# EAGLE library part LFXP20C_XXF388 (library lattice1)
lfxp20c_fpbga388 edit this description Auto generated by make-symbol-device-package-bsdl.ulp Rev. 20 Source: lfxp20c_fpbga388.bsm
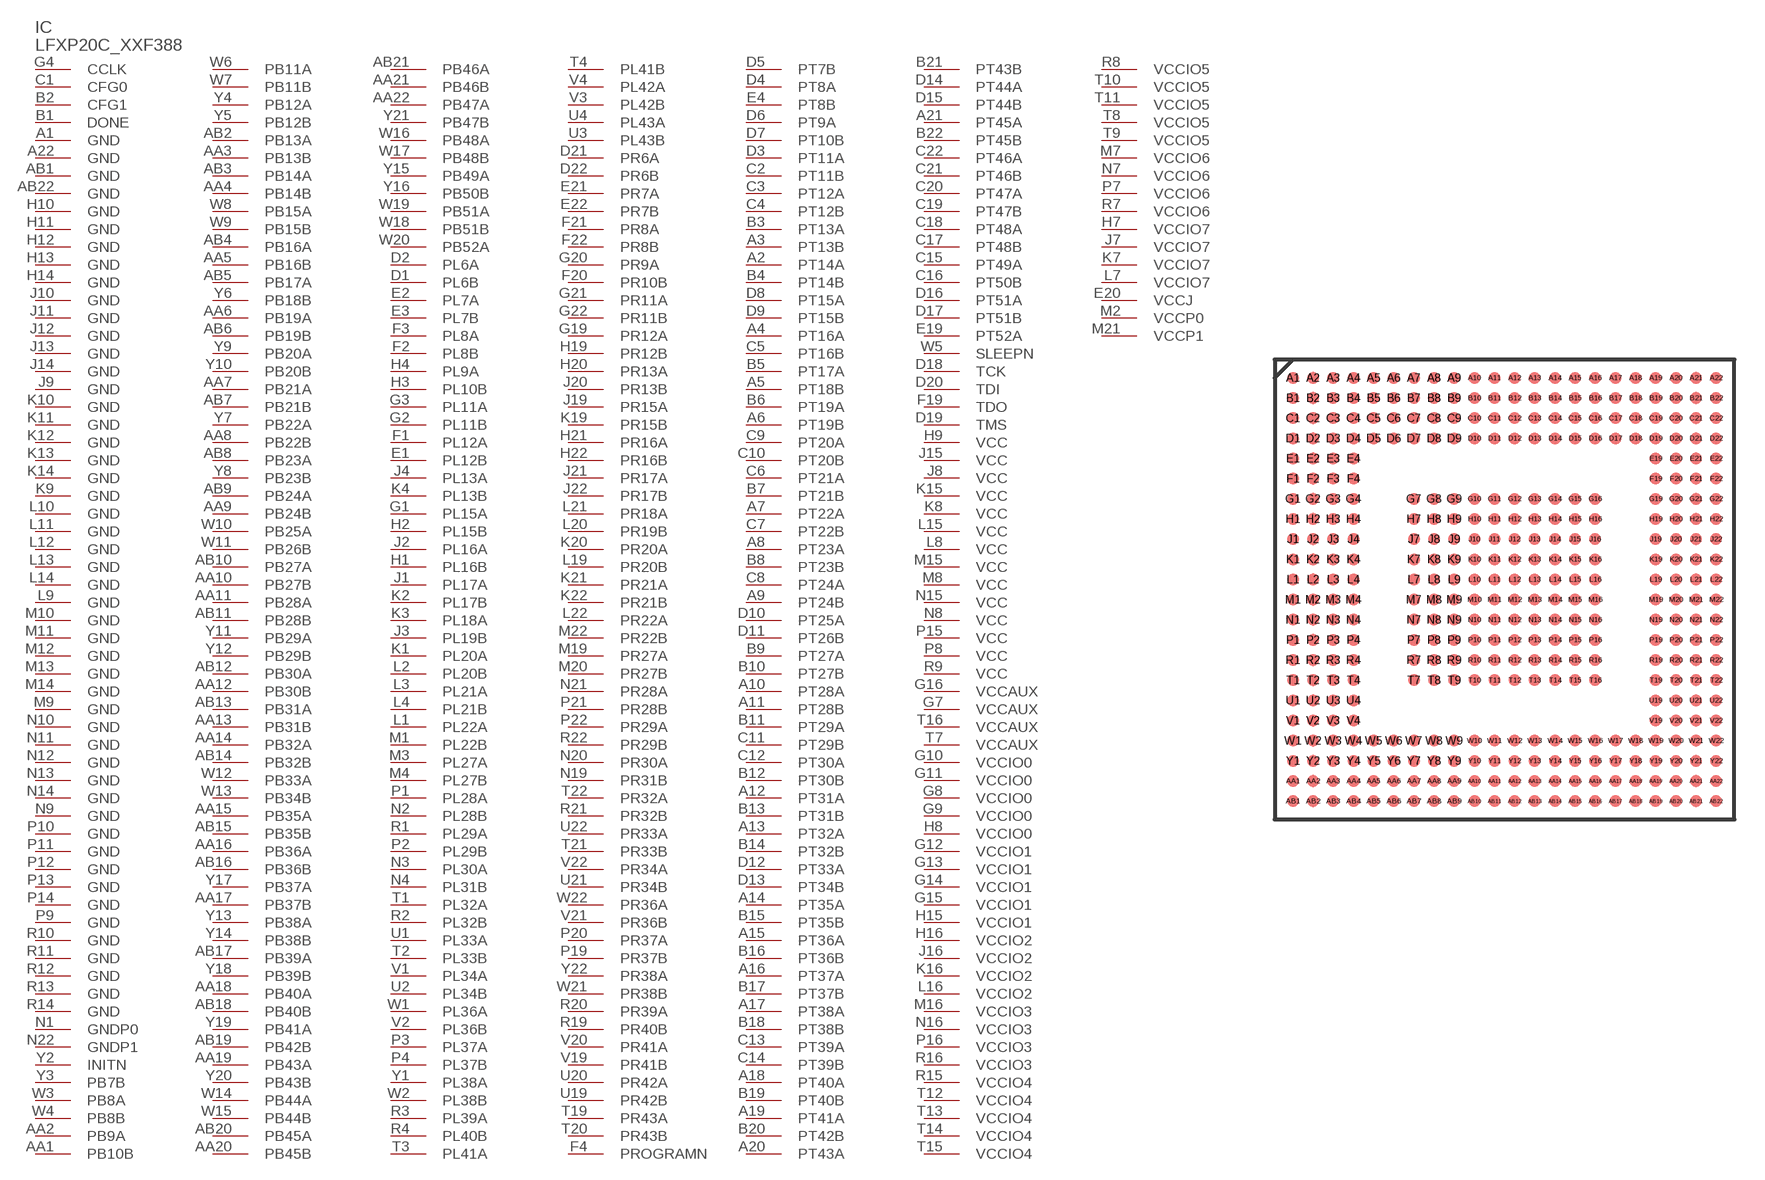
[diagram p23: symbol with the pads of FPBGA388; footprint FPBGA388]

Designator prefix IC

## LFXP20C_XXF388  [FPBGA388]
A1  GND  pwr
A2  PT14A
A3  PT13B
A4  PT16A
A5  PT18B
A6  PT19B
A7  PT22A
A8  PT23A
A9  PT24B
A10  PT28A
A11  PT28B
A12  PT31A
A13  PT32A
A14  PT35A
A15  PT36A
A16  PT37A
A17  PT38A
A18  PT40A
A19  PT41A
A20  PT43A
A21  PT45A
A22  GND  pwr
AA1  PB10B
AA2  PB9A
AA3  PB13B
AA4  PB14B
AA5  PB16B
AA6  PB19A
AA7  PB21A
AA8  PB22B
AA9  PB24B
AA10  PB27B
AA11  PB28A
AA12  PB30B
AA13  PB31B
AA14  PB32A
AA15  PB35A
AA16  PB36A
AA17  PB37B
AA18  PB40A
AA19  PB43A
AA20  PB45B
AA21  PB46B
AA22  PB47A
AB1  GND  pwr
AB2  PB13A
AB3  PB14A
AB4  PB16A
AB5  PB17A
AB6  PB19B
AB7  PB21B
AB8  PB23A
AB9  PB24A
AB10  PB27A
AB11  PB28B
AB12  PB30A
AB13  PB31A
AB14  PB32B
AB15  PB35B
AB16  PB36B
AB17  PB39A
AB18  PB40B
AB19  PB42B
AB20  PB45A
AB21  PB46A
AB22  GND  pwr
B1  DONE
B2  CFG1  in
B3  PT13A
B4  PT14B
B5  PT17A
B6  PT19A
B7  PT21B
B8  PT23B
B9  PT27A
B10  PT27B
B11  PT29A
B12  PT30B
B13  PT31B
B14  PT32B
B15  PT35B
B16  PT36B
B17  PT37B
B18  PT38B
B19  PT40B
B20  PT42B
B21  PT43B
B22  PT45B
C1  CFG0  in
C2  PT11B
C3  PT12A
C4  PT12B
C5  PT16B
C6  PT21A
C7  PT22B
C8  PT24A
C9  PT20A
C10  PT20B
C11  PT29B
C12  PT30A
C13  PT39A
C14  PT39B
C15  PT49A
C16  PT50B
C17  PT48B
C18  PT48A
C19  PT47B
C20  PT47A
C21  PT46B
C22  PT46A
D1  PL6B
D2  PL6A
D3  PT11A
D4  PT8A
D5  PT7B
D6  PT9A
D7  PT10B
D8  PT15A
D9  PT15B
D10  PT25A
D11  PT26B
D12  PT33A
D13  PT34B
D14  PT44A
D15  PT44B
D16  PT51A
D17  PT51B
D18  TCK  in
D19  TMS  in
D20  TDI  in
D21  PR6A
D22  PR6B
E1  PL12B
E2  PL7A
E3  PL7B
E4  PT8B
E19  PT52A
E20  VCCJ  pwr
E21  PR7A
E22  PR7B
F1  PL12A
F2  PL8B
F3  PL8A
F4  PROGRAMN  in
F19  TDO  out
F20  PR10B
F21  PR8A
F22  PR8B
G1  PL15A
G2  PL11B
G3  PL11A
G4  CCLK
G7  VCCAUX  pwr
G8  VCCIO0  pwr
G9  VCCIO0  pwr
G10  VCCIO0  pwr
G11  VCCIO0  pwr
G12  VCCIO1  pwr
G13  VCCIO1  pwr
G14  VCCIO1  pwr
G15  VCCIO1  pwr
G16  VCCAUX  pwr
G19  PR12A
G20  PR9A
G21  PR11A
G22  PR11B
H1  PL16B
H2  PL15B
H3  PL10B
H4  PL9A
H7  VCCIO7  pwr
H8  VCCIO0  pwr
H9  VCC  pwr
H10  GND  pwr
H11  GND  pwr
H12  GND  pwr
H13  GND  pwr
H14  GND  pwr
H15  VCCIO1  pwr
H16  VCCIO2  pwr
H19  PR12B
H20  PR13A
H21  PR16A
H22  PR16B
J1  PL17A
J2  PL16A
J3  PL19B
J4  PL13A
J7  VCCIO7  pwr
J8  VCC  pwr
J9  GND  pwr
J10  GND  pwr
J11  GND  pwr
J12  GND  pwr
J13  GND  pwr
J14  GND  pwr
J15  VCC  pwr
J16  VCCIO2  pwr
J19  PR15A
J20  PR13B
J21  PR17A
J22  PR17B
K1  PL20A
K2  PL17B
K3  PL18A
K4  PL13B
K7  VCCIO7  pwr
K8  VCC  pwr
K9  GND  pwr
K10  GND  pwr
K11  GND  pwr
K12  GND  pwr
K13  GND  pwr
K14  GND  pwr
K15  VCC  pwr
K16  VCCIO2  pwr
K19  PR15B
K20  PR20A
K21  PR21A
K22  PR21B
L1  PL22A
L2  PL20B
L3  PL21A
L4  PL21B
L7  VCCIO7  pwr
L8  VCC  pwr
L9  GND  pwr
L10  GND  pwr
L11  GND  pwr
L12  GND  pwr
L13  GND  pwr
L14  GND  pwr
L15  VCC  pwr
L16  VCCIO2  pwr
L19  PR20B
L20  PR19B
L21  PR18A
L22  PR22A
M1  PL22B
M2  VCCP0  pwr
M3  PL27A
M4  PL27B
M7  VCCIO6  pwr
M8  VCC  pwr
M9  GND  pwr
M10  GND  pwr
M11  GND  pwr
M12  GND  pwr
M13  GND  pwr
M14  GND  pwr
M15  VCC  pwr
M16  VCCIO3  pwr
M19  PR27A
M20  PR27B
M21  VCCP1  pwr
M22  PR22B
N1  GNDP0  pwr
N2  PL28B
N3  PL30A
N4  PL31B
N7  VCCIO6  pwr
N8  VCC  pwr
N9  GND  pwr
N10  GND  pwr
N11  GND  pwr
N12  GND  pwr
N13  GND  pwr
N14  GND  pwr
N15  VCC  pwr
N16  VCCIO3  pwr
N19  PR31B
N20  PR30A
N21  PR28A
N22  GNDP1  pwr
P1  PL28A
P2  PL29B
P3  PL37A
P4  PL37B
P7  VCCIO6  pwr
P8  VCC  pwr
P9  GND  pwr
P10  GND  pwr
P11  GND  pwr
P12  GND  pwr
P13  GND  pwr
P14  GND  pwr
P15  VCC  pwr
P16  VCCIO3  pwr
P19  PR37B
P20  PR37A
P21  PR28B
P22  PR29A
R1  PL29A
R2  PL32B
R3  PL39A
R4  PL40B
R7  VCCIO6  pwr
R8  VCCIO5  pwr
R9  VCC  pwr
R10  GND  pwr
R11  GND  pwr
R12  GND  pwr
R13  GND  pwr
R14  GND  pwr
R15  VCCIO4  pwr
R16  VCCIO3  pwr
R19  PR40B
R20  PR39A
R21  PR32B
R22  PR29B
T1  PL32A
T2  PL33B
T3  PL41A
T4  PL41B
T7  VCCAUX  pwr
T8  VCCIO5  pwr
T9  VCCIO5  pwr
T10  VCCIO5  pwr
T11  VCCIO5  pwr
T12  VCCIO4  pwr
T13  VCCIO4  pwr
T14  VCCIO4  pwr
T15  VCCIO4  pwr
T16  VCCAUX  pwr
T19  PR43A
T20  PR43B
T21  PR33B
T22  PR32A
U1  PL33A
U2  PL34B
U3  PL43B
U4  PL43A
U19  PR42B
U20  PR42A
U21  PR34B
U22  PR33A
V1  PL34A
V2  PL36B
V3  PL42B
V4  PL42A
V19  PR41B
V20  PR41A
V21  PR36B
V22  PR34A
W1  PL36A
W2  PL38B
W3  PB8A
W4  PB8B
W5  SLEEPN  in
W6  PB11A
W7  PB11B
W8  PB15A
W9  PB15B
W10  PB25A
W11  PB26B
W12  PB33A
W13  PB34B
W14  PB44A
W15  PB44B
W16  PB48A
W17  PB48B
W18  PB51B
W19  PB51A
W20  PB52A
W21  PR38B
W22  PR36A
Y1  PL38A
Y2  INITN
Y3  PB7B
Y4  PB12A
Y5  PB12B
Y6  PB18B
Y7  PB22A
Y8  PB23B
Y9  PB20A
Y10  PB20B
Y11  PB29A
Y12  PB29B
Y13  PB38A
Y14  PB38B
Y15  PB49A
Y16  PB50B
Y17  PB37A
Y18  PB39B
Y19  PB41A
Y20  PB43B
Y21  PB47B
Y22  PR38A

## Footprint FPBGA388 (pad centres in mm)
lfxp10c_fpbga388 edit this description Auto generated by make-symbol-device-package-bsdl.ulp Rev. 20 Source: lfxp10c_fpbga388.bsm
smd 0.6 x 0.6: A1 -10.5,10.5; A2 -9.5,10.5; A3 -8.5,10.5; A4 -7.5,10.5; A5 -6.5,10.5; A6 -5.5,10.5; A7 -4.5,10.5; A8 -3.5,10.5; A9 -2.5,10.5; A10 -1.5,10.5; A11 -0.5,10.5; A12 0.5,10.5; A13 1.5,10.5; A14 2.5,10.5; A15 3.5,10.5; A16 4.5,10.5; A17 5.5,10.5; A18 6.5,10.5; A19 7.5,10.5; A20 8.5,10.5; A21 9.5,10.5; A22 10.5,10.5; AA1 -10.5,-9.5; AA2 -9.5,-9.5; AA3 -8.5,-9.5; AA4 -7.5,-9.5; AA5 -6.5,-9.5; AA6 -5.5,-9.5; AA7 -4.5,-9.5; AA8 -3.5,-9.5; AA9 -2.5,-9.5; AA10 -1.5,-9.5; AA11 -0.5,-9.5; AA12 0.5,-9.5; AA13 1.5,-9.5; AA14 2.5,-9.5; AA15 3.5,-9.5; AA16 4.5,-9.5; AA17 5.5,-9.5; AA18 6.5,-9.5; AA19 7.5,-9.5; AA20 8.5,-9.5; AA21 9.5,-9.5; AA22 10.5,-9.5; AB1 -10.5,-10.5; AB2 -9.5,-10.5; AB3 -8.5,-10.5; AB4 -7.5,-10.5; AB5 -6.5,-10.5; AB6 -5.5,-10.5; AB7 -4.5,-10.5; AB8 -3.5,-10.5; AB9 -2.5,-10.5; AB10 -1.5,-10.5; AB11 -0.5,-10.5; AB12 0.5,-10.5; AB13 1.5,-10.5; AB14 2.5,-10.5; AB15 3.5,-10.5; AB16 4.5,-10.5; AB17 5.5,-10.5; AB18 6.5,-10.5; AB19 7.5,-10.5; AB20 8.5,-10.5; AB21 9.5,-10.5; AB22 10.5,-10.5; B1 -10.5,9.5; B2 -9.5,9.5; B3 -8.5,9.5; B4 -7.5,9.5; B5 -6.5,9.5; B6 -5.5,9.5; B7 -4.5,9.5; B8 -3.5,9.5; B9 -2.5,9.5; B10 -1.5,9.5; B11 -0.5,9.5; B12 0.5,9.5; B13 1.5,9.5; B14 2.5,9.5; B15 3.5,9.5; B16 4.5,9.5; B17 5.5,9.5; B18 6.5,9.5; B19 7.5,9.5; B20 8.5,9.5; B21 9.5,9.5; B22 10.5,9.5; C1 -10.5,8.5; C2 -9.5,8.5; C3 -8.5,8.5; C4 -7.5,8.5; C5 -6.5,8.5; C6 -5.5,8.5; C7 -4.5,8.5; C8 -3.5,8.5; C9 -2.5,8.5; C10 -1.5,8.5; C11 -0.5,8.5; C12 0.5,8.5; C13 1.5,8.5; C14 2.5,8.5; C15 3.5,8.5; C16 4.5,8.5; C17 5.5,8.5; C18 6.5,8.5; C19 7.5,8.5; C20 8.5,8.5; C21 9.5,8.5; C22 10.5,8.5; D1 -10.5,7.5; D2 -9.5,7.5; D3 -8.5,7.5; D4 -7.5,7.5; D5 -6.5,7.5; D6 -5.5,7.5; D7 -4.5,7.5; D8 -3.5,7.5; D9 -2.5,7.5; D10 -1.5,7.5; D11 -0.5,7.5; D12 0.5,7.5; D13 1.5,7.5; D14 2.5,7.5; D15 3.5,7.5; D16 4.5,7.5; D17 5.5,7.5; D18 6.5,7.5; D19 7.5,7.5; D20 8.5,7.5; D21 9.5,7.5; D22 10.5,7.5; E1 -10.5,6.5; E2 -9.5,6.5; E3 -8.5,6.5; E4 -7.5,6.5; E19 7.5,6.5; E20 8.5,6.5; E21 9.5,6.5; E22 10.5,6.5; F1 -10.5,5.5; F2 -9.5,5.5; F3 -8.5,5.5; F4 -7.5,5.5; F19 7.5,5.5; F20 8.5,5.5; F21 9.5,5.5; F22 10.5,5.5; G1 -10.5,4.5; G2 -9.5,4.5; G3 -8.5,4.5; G4 -7.5,4.5; G7 -4.5,4.5; G8 -3.5,4.5; G9 -2.5,4.5; G10 -1.5,4.5; G11 -0.5,4.5; G12 0.5,4.5; G13 1.5,4.5; G14 2.5,4.5; G15 3.5,4.5; G16 4.5,4.5; G19 7.5,4.5; G20 8.5,4.5; G21 9.5,4.5; G22 10.5,4.5; H1 -10.5,3.5; H2 -9.5,3.5; H3 -8.5,3.5; H4 -7.5,3.5; H7 -4.5,3.5; H8 -3.5,3.5; H9 -2.5,3.5; H10 -1.5,3.5; H11 -0.5,3.5; H12 0.5,3.5; H13 1.5,3.5; H14 2.5,3.5; H15 3.5,3.5; H16 4.5,3.5; H19 7.5,3.5; H20 8.5,3.5; H21 9.5,3.5; H22 10.5,3.5; J1 -10.5,2.5; J2 -9.5,2.5; J3 -8.5,2.5; J4 -7.5,2.5; J7 -4.5,2.5; J8 -3.5,2.5; J9 -2.5,2.5; J10 -1.5,2.5; J11 -0.5,2.5; J12 0.5,2.5; J13 1.5,2.5; J14 2.5,2.5; J15 3.5,2.5; J16 4.5,2.5; J19 7.5,2.5; J20 8.5,2.5; J21 9.5,2.5; J22 10.5,2.5; K1 -10.5,1.5; K2 -9.5,1.5; K3 -8.5,1.5; K4 -7.5,1.5; K7 -4.5,1.5; K8 -3.5,1.5; K9 -2.5,1.5; K10 -1.5,1.5; K11 -0.5,1.5; K12 0.5,1.5; K13 1.5,1.5; K14 2.5,1.5; K15 3.5,1.5; K16 4.5,1.5; K19 7.5,1.5; K20 8.5,1.5; K21 9.5,1.5; K22 10.5,1.5; L1 -10.5,0.5; L2 -9.5,0.5; L3 -8.5,0.5; L4 -7.5,0.5; L7 -4.5,0.5; L8 -3.5,0.5; L9 -2.5,0.5; L10 -1.5,0.5; L11 -0.5,0.5; L12 0.5,0.5; L13 1.5,0.5; L14 2.5,0.5; L15 3.5,0.5; L16 4.5,0.5; L19 7.5,0.5; L20 8.5,0.5; L21 9.5,0.5; L22 10.5,0.5; M1 -10.5,-0.5; M2 -9.5,-0.5; M3 -8.5,-0.5; M4 -7.5,-0.5; M7 -4.5,-0.5; M8 -3.5,-0.5; M9 -2.5,-0.5; M10 -1.5,-0.5; M11 -0.5,-0.5; M12 0.5,-0.5; M13 1.5,-0.5; M14 2.5,-0.5; M15 3.5,-0.5; M16 4.5,-0.5; M19 7.5,-0.5; M20 8.5,-0.5; M21 9.5,-0.5; M22 10.5,-0.5; N1 -10.5,-1.5; N2 -9.5,-1.5; N3 -8.5,-1.5; N4 -7.5,-1.5; N7 -4.5,-1.5; N8 -3.5,-1.5; N9 -2.5,-1.5; N10 -1.5,-1.5; N11 -0.5,-1.5; N12 0.5,-1.5; N13 1.5,-1.5; N14 2.5,-1.5; N15 3.5,-1.5; N16 4.5,-1.5; N19 7.5,-1.5; N20 8.5,-1.5; N21 9.5,-1.5; N22 10.5,-1.5; P1 -10.5,-2.5; P2 -9.5,-2.5; P3 -8.5,-2.5; P4 -7.5,-2.5; P7 -4.5,-2.5; P8 -3.5,-2.5; P9 -2.5,-2.5; P10 -1.5,-2.5; P11 -0.5,-2.5; P12 0.5,-2.5; P13 1.5,-2.5; P14 2.5,-2.5; P15 3.5,-2.5; P16 4.5,-2.5; P19 7.5,-2.5; P20 8.5,-2.5; P21 9.5,-2.5; P22 10.5,-2.5; R1 -10.5,-3.5; R2 -9.5,-3.5; R3 -8.5,-3.5; R4 -7.5,-3.5; R7 -4.5,-3.5; R8 -3.5,-3.5; R9 -2.5,-3.5; R10 -1.5,-3.5; R11 -0.5,-3.5; R12 0.5,-3.5; R13 1.5,-3.5; R14 2.5,-3.5; R15 3.5,-3.5; R16 4.5,-3.5; R19 7.5,-3.5; R20 8.5,-3.5; R21 9.5,-3.5; R22 10.5,-3.5; T1 -10.5,-4.5; T2 -9.5,-4.5; T3 -8.5,-4.5; T4 -7.5,-4.5; T7 -4.5,-4.5; T8 -3.5,-4.5; T9 -2.5,-4.5; T10 -1.5,-4.5; T11 -0.5,-4.5; T12 0.5,-4.5; T13 1.5,-4.5; T14 2.5,-4.5; T15 3.5,-4.5; T16 4.5,-4.5; T19 7.5,-4.5; T20 8.5,-4.5; T21 9.5,-4.5; T22 10.5,-4.5; U1 -10.5,-5.5; U2 -9.5,-5.5; U3 -8.5,-5.5; U4 -7.5,-5.5; U19 7.5,-5.5; U20 8.5,-5.5; U21 9.5,-5.5; U22 10.5,-5.5; V1 -10.5,-6.5; V2 -9.5,-6.5; V3 -8.5,-6.5; V4 -7.5,-6.5; V19 7.5,-6.5; V20 8.5,-6.5; V21 9.5,-6.5; V22 10.5,-6.5; W1 -10.5,-7.5; W2 -9.5,-7.5; W3 -8.5,-7.5; W4 -7.5,-7.5; W5 -6.5,-7.5; W6 -5.5,-7.5; W7 -4.5,-7.5; W8 -3.5,-7.5; W9 -2.5,-7.5; W10 -1.5,-7.5; W11 -0.5,-7.5; W12 0.5,-7.5; W13 1.5,-7.5; W14 2.5,-7.5; W15 3.5,-7.5; W16 4.5,-7.5; W17 5.5,-7.5; W18 6.5,-7.5; W19 7.5,-7.5; W20 8.5,-7.5; W21 9.5,-7.5; W22 10.5,-7.5; Y1 -10.5,-8.5; Y2 -9.5,-8.5; Y3 -8.5,-8.5; Y4 -7.5,-8.5; Y5 -6.5,-8.5; Y6 -5.5,-8.5; Y7 -4.5,-8.5; Y8 -3.5,-8.5; Y9 -2.5,-8.5; Y10 -1.5,-8.5; Y11 -0.5,-8.5; Y12 0.5,-8.5; Y13 1.5,-8.5; Y14 2.5,-8.5; Y15 3.5,-8.5; Y16 4.5,-8.5; Y17 5.5,-8.5; Y18 6.5,-8.5; Y19 7.5,-8.5; Y20 8.5,-8.5; Y21 9.5,-8.5; Y22 10.5,-8.5